# EAGLE library part AT32UC3L016-ZAUT (library RFiD)
AT32UC3L016 edit this description Auto generated by make-symbol-device-package-bsdl.ulp Rev. 43 Source: AT32UC3L016.txt Connect-List generated from AT32UC3L016.DEV Variant '' with split-device-symbol.ulp
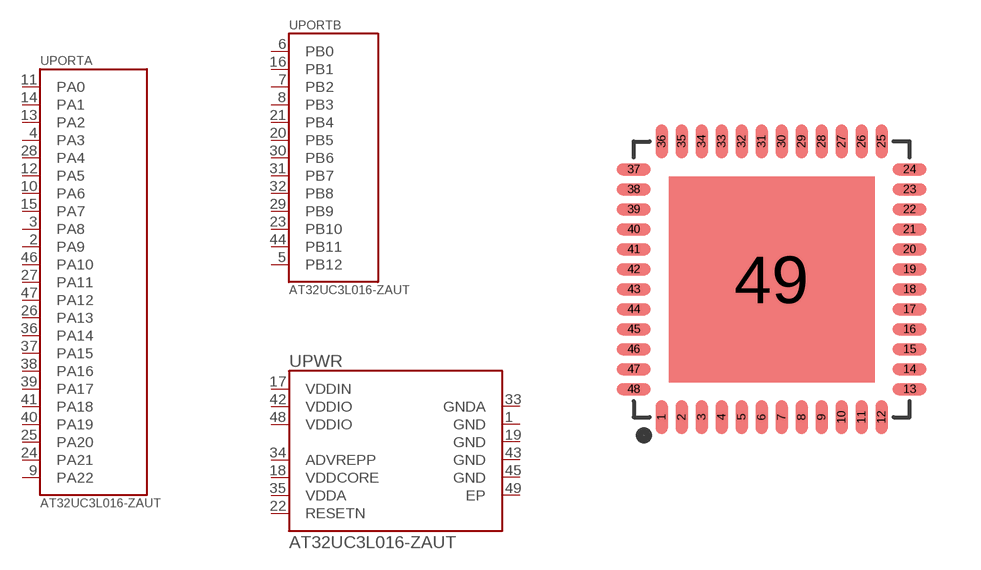
[diagram p0: symbol with the pads of QFN48; footprint QFN48]

Designator prefix U; gates PORTA=AT32UC3L016ZAUT-A PORTB=AT32UC3L016ZAUT-B PWR=AT32UC3L016ZAUT-C

## AT32UC3L016-ZAUT  [QFN48]
1  PWR:GND  pwr
2  PORTA:PA9
3  PORTA:PA8
4  PORTA:PA3
5  PORTB:PB12
6  PORTB:PB0
7  PORTB:PB2
8  PORTB:PB3
9  PORTA:PA22
10  PORTA:PA6
11  PORTA:PA0
12  PORTA:PA5
13  PORTA:PA2
14  PORTA:PA1
15  PORTA:PA7
16  PORTB:PB1
17  PWR:VDDIN  pwr
18  PWR:VDDCORE  pwr
19  PWR:GND  pwr
20  PORTB:PB5
21  PORTB:PB4
22  PWR:RESETN  in
23  PORTB:PB10
24  PORTA:PA21
25  PORTA:PA20
26  PORTA:PA13
27  PORTA:PA11
28  PORTA:PA4
29  PORTB:PB9
30  PORTB:PB6
31  PORTB:PB7
32  PORTB:PB8
33  PWR:GNDA  pwr
34  PWR:ADVREPP  pwr
35  PWR:VDDA  pwr
36  PORTA:PA14
37  PORTA:PA15
38  PORTA:PA16
39  PORTA:PA17
40  PORTA:PA19
41  PORTA:PA18
42  PWR:VDDIO  pwr
43  PWR:GND  pwr
44  PORTB:PB11
45  PWR:GND  pwr
46  PORTA:PA10
47  PORTA:PA12
48  PWR:VDDIO  pwr
49  PWR:EP  pwr

## Footprint QFN48 (pad centres in mm)
smd 0.3 x 0.85: 1 -2.75,-3.45; 2 -2.25,-3.45; 3 -1.75,-3.45; 4 -1.25,-3.45; 5 -0.75,-3.45; 6 -0.25,-3.45; 7 0.25,-3.45; 8 0.75,-3.45; 9 1.25,-3.45; 10 1.75,-3.45; 11 2.25,-3.45; 12 2.75,-3.45; 25 2.75,3.45; 26 2.25,3.45; 27 1.75,3.45; 28 1.25,3.45; 29 0.75,3.45; 30 0.25,3.45; 31 -0.25,3.45; 32 -0.75,3.45; 33 -1.25,3.45; 34 -1.75,3.45; 35 -2.25,3.45; 36 -2.75,3.45
smd 0.85 x 0.3: 13 3.45,-2.75; 14 3.45,-2.25; 15 3.45,-1.75; 16 3.45,-1.25; 17 3.45,-0.75; 18 3.45,-0.25; 19 3.45,0.25; 20 3.45,0.75; 21 3.45,1.25; 22 3.45,1.75; 23 3.45,2.25; 24 3.45,2.75; 37 -3.45,2.75; 38 -3.45,2.25; 39 -3.45,1.75; 40 -3.45,1.25; 41 -3.45,0.75; 42 -3.45,0.25; 43 -3.45,-0.25; 44 -3.45,-0.75; 45 -3.45,-1.25; 46 -3.45,-1.75; 47 -3.45,-2.25; 48 -3.45,-2.75
smd 5.15 x 5.15: 49 0,0